# Altium footprint library octopus_pcb_lib.PcbLib: 2 footprints
Each footprint in its own frame and in the unit in brackets; x right, y up, seen from the top. Pads: shape width x height; smd on the part's side, far side on the other; paste and mask are expansions set on the pad; w line width, h text height; cw(c..) or ccw(c..) is an arc to the next point about the centre after c.
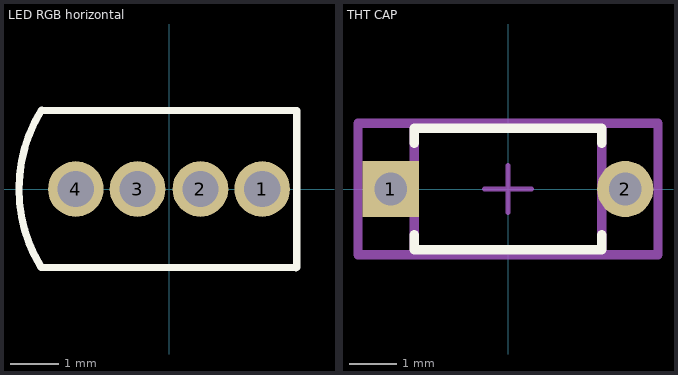
[diagram p0: the footprints below, top view; thin cyan lines are the x and y axes]

## LED RGB horizontal [mm] "5mm RGB LED"
pads (4):
  round 1.15 hole 0.75 mask+0.075: 1(1.925,0) 2(0.65,0) 3(-0.65,0) 4(-1.925,0)
Top Overlay:
  lines w0.15: -2.636,1.632 ccw(c0,0) -2.64,-1.625 2.625,-1.625 ; -2.625,1.625 2.64,1.625 2.64,-1.625

## THT CAP [mm]
pads (2):
  rect 1.2x1.2 hole 0.7 paste-2539.97 mask+0: 1(-2.5,0)
  round 1.2 hole 0.7 paste-2539.97 mask+0: 2(2.5,0)
Top Overlay:
  lines w0.2: -2,-0.975 -2,-1.3 2,-1.3 2,-0.975 ; -2,0.975 -2,1.3 2,1.3 2,0.975
Top Assembly:
  lines w0.2: -3.2,-1.4 3.2,-1.4 3.2,1.4 -3.2,1.4 -3.2,-1.4
Top 3D Body:
  lines w0.2: -2,-1.3 2,-1.3 2,1.3 -2,1.3 -2,-1.3
Top Courtyard:
  lines w0.2: -3.2,-1.4 3.2,-1.4 3.2,1.4 -3.2,1.4 -3.2,-1.4
Top Component Center:
  lines w0.1: -0.5,0 0.5,0 ; 0,-0.5 0,0.5
3D body "Cap_Vishay_K104K15X7RF53H5_eec.STEP": height 0.25, standoff 0, extent -3.2,-1.4 3.2,1.4